# EAGLE library part MC14053BDTR2G (library ON Semiconductor_By_element14_Batch_1)
Multiplexers/Demultiplexers
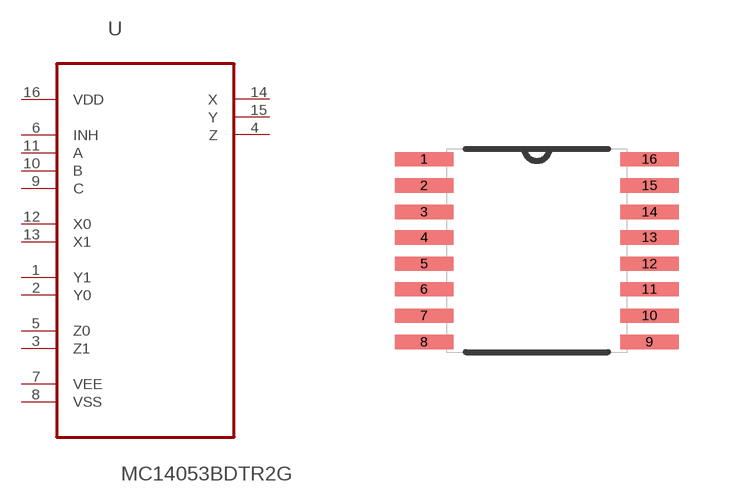
[diagram p246: symbol with the pads of SOP65P640X120-16N; footprint SOP65P640X120-16N]

Designator prefix U

## MC14053BDTR2G (MPN: MC14053BDTR2G; OC_FARNELL: -; OC_NEWARK: 04R7824; P1I: o; PACKAGE: TSSOP-16; SUPPLIER: ON SEMICONDUCTOR)  [SOP65P640X120-16N]
1  Y1
2  Y0
3  Z1
4  Z
5  Z0
6  INH  in
7  VEE  pwr
8  VSS  pwr
9  C  in
10  B  in
11  A  in
12  X0
13  X1
14  X
15  Y
16  VDD  pwr

## Footprint SOP65P640X120-16N (pad centres in mm)
smd 1.473 x 0.356: 1 -2.819,2.286; 2 -2.819,1.626; 3 -2.819,0.965; 4 -2.819,0.33; 5 -2.819,-0.33; 6 -2.819,-0.965; 7 -2.819,-1.626; 8 -2.819,-2.286; 9 2.819,-2.286; 10 2.819,-1.626; 11 2.819,-0.965; 12 2.819,-0.33; 13 2.819,0.33; 14 2.819,0.965; 15 2.819,1.626; 16 2.819,2.286